# EAGLE library part MB8421P/52 (library micro-fujitsu)
MICROCONTROLLER/MEMORY DEVICE
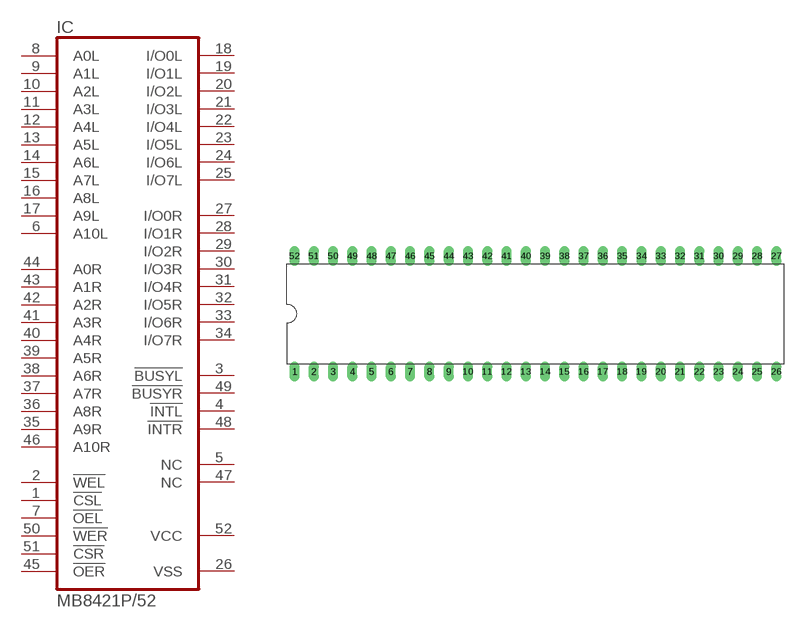
[diagram p41: symbol with the pads of DIL52; footprint DIL52]

Designator prefix IC

## MB8421P/52 (OC_FARNELL: unknown; OC_NEWARK: unknown)  [DIL52]
1  !CSL  in
2  !WEL  in
3  !BUSYL  out
4  !INTL  out
5  NC  nc
6  A10L  in
7  !OEL  in
8  A0L  in
9  A1L  in
10  A2L  in
11  A3L  in
12  A4L  in
13  A5L  in
14  A6L  in
15  A7L  in
16  A8L  in
17  A9L  in
18  I/O0L
19  I/O1L
20  I/O2L
21  I/O3L
22  I/O4L
23  I/O5L
24  I/O6L
25  I/O7L
26  VSS  pwr
27  I/O0R
28  I/O1R
29  I/O2R
30  I/O3R
31  I/O4R
32  I/O5R
33  I/O6R
34  I/O7R
35  A9R  in
36  A8R  in
37  A7R  in
38  A6R  in
39  A5R  in
40  A4R  in
41  A3R  in
42  A2R  in
43  A1R  in
44  A0R  in
45  !OER  in
46  A10R  in
47  NC  nc
48  !INTR  out
49  !BUSYR  out
50  !WER  in
51  !CSR  in
52  VCC  pwr

## Footprint DIL52 (pad centres in mm)
Dual In Line Package
drill 0.813 long: 1 -31.75,-7.62; 2 -29.21,-7.62; 3 -26.67,-7.62; 4 -24.13,-7.62; 5 -21.59,-7.62; 6 -19.05,-7.62; 7 -16.51,-7.62; 8 -13.97,-7.62; 9 -11.43,-7.62; 10 -8.89,-7.62; 11 -6.35,-7.62; 12 -3.81,-7.62; 13 -1.27,-7.62; 14 1.27,-7.62; 15 3.81,-7.62; 16 6.35,-7.62; 17 8.89,-7.62; 18 11.43,-7.62; 19 13.97,-7.62; 20 16.51,-7.62; 21 19.05,-7.62; 22 21.59,-7.62; 23 24.13,-7.62; 24 26.67,-7.62; 25 29.21,-7.62; 26 31.75,-7.62; 27 31.75,7.62; 28 29.21,7.62; 29 26.67,7.62; 30 24.13,7.62; 31 21.59,7.62; 32 19.05,7.62; 33 16.51,7.62; 34 13.97,7.62; 35 11.43,7.62; 36 8.89,7.62; 37 6.35,7.62; 38 3.81,7.62; 39 1.27,7.62; 40 -1.27,7.62; 41 -3.81,7.62; 42 -6.35,7.62; 43 -8.89,7.62; 44 -11.43,7.62; 45 -13.97,7.62; 46 -16.51,7.62; 47 -19.05,7.62; 48 -21.59,7.62; 49 -24.13,7.62; 50 -26.67,7.62; 51 -29.21,7.62; 52 -31.75,7.62